# EAGLE library part PIC24FJ64GA004 (library SM-Microchip)
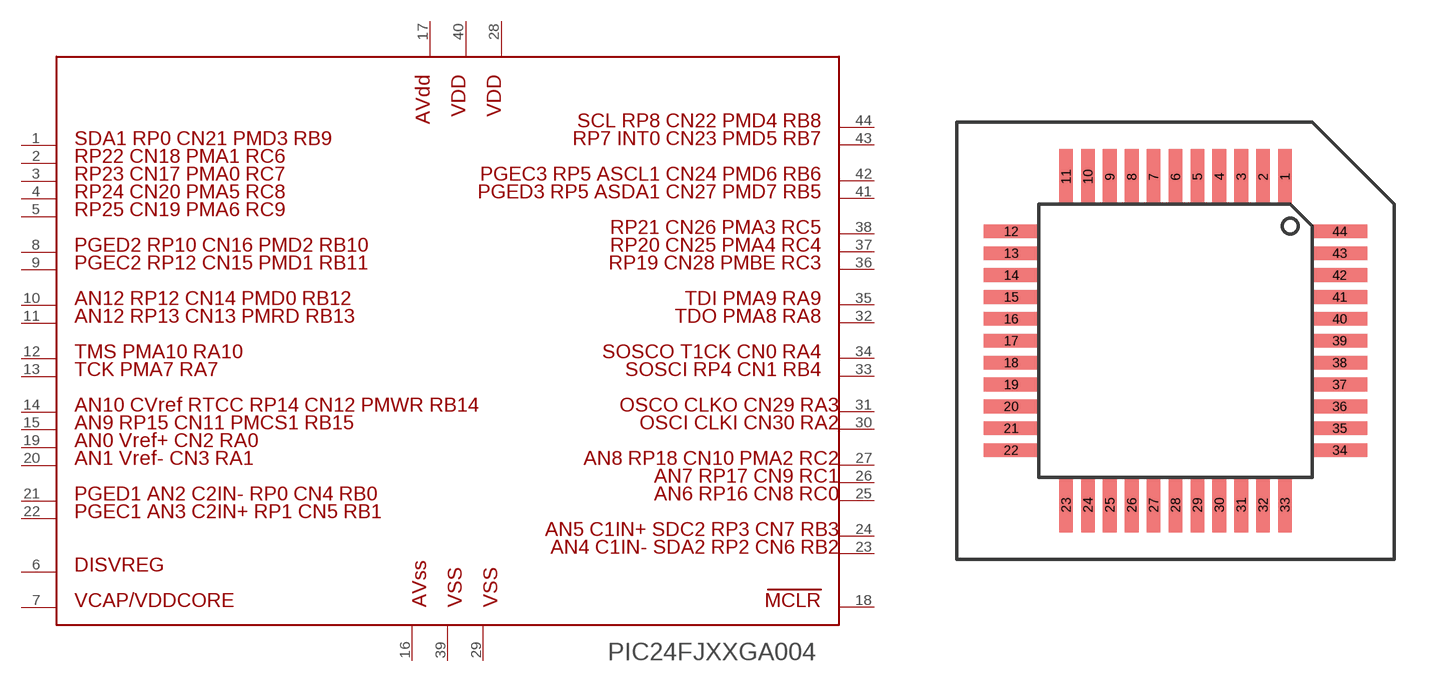
[diagram p2: symbol with the pads of TQFP44_10X10; footprint TQFP44_10X10]

Designator prefix PIC

## PIC24FJ64GA004  [TQFP44_10X10]
1  1
2  2
3  3
4  4
5  5
6  6
7  7
8  8
9  9
10  10
11  11
12  12
13  13
14  14
15  15
16  16
17  17
18  18
19  19
20  20
21  21
22  22
23  23
24  24
25  25
26  26
27  27
28  28
29  29
30  30
31  31
32  32
33  33
34  34
35  35
36  36
37  37
38  38
39  39
40  40
41  41
42  42
43  43
44  44

## Footprint TQFP44_10X10 (pad centres in mm)
smd 0.5 x 2: 1 4,6; 2 3.2,6; 3 2.4,6; 4 1.6,6; 5 0.8,6; 6 0,6; 7 -0.8,6; 8 -1.6,6; 9 -2.4,6; 10 -3.2,6; 11 -4,6; 23 -4,-6; 24 -3.2,-6; 25 -2.4,-6; 26 -1.6,-6; 27 -0.8,-6; 28 0,-6; 29 0.8,-6; 30 1.6,-6; 31 2.4,-6; 32 3.2,-6; 33 4,-6
smd 2 x 0.5: 12 -6,4; 13 -6,3.2; 14 -6,2.4; 15 -6,1.6; 16 -6,0.8; 17 -6,0; 18 -6,-0.8; 19 -6,-1.6; 20 -6,-2.4; 21 -6,-3.2; 22 -6,-4; 34 6,-4; 35 6,-3.2; 36 6,-2.4; 37 6,-1.6; 38 6,-0.8; 39 6,0; 40 6,0.8; 41 6,1.6; 42 6,2.4; 43 6,3.2; 44 6,4